# Altium schematic symbol library Filament_bulb.Schlib: 1 symbol
Pins are listed as number, name and electrical type; pins without a type are passive.

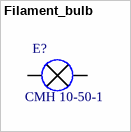
[diagram p0: symbol Filament_bulb]

## Filament_bulb
designator E?, comment Наименование: СМН 10-50-1  (hidden comment: Filament bulb)
Назначение: Лампа накаливания
footprint SMP-10-50-1 (Filament bulb)
pins: 0, 1